# Altium integrated library Oscillators - Crystals.IntLib: 746 symbols (part 8 of 17)
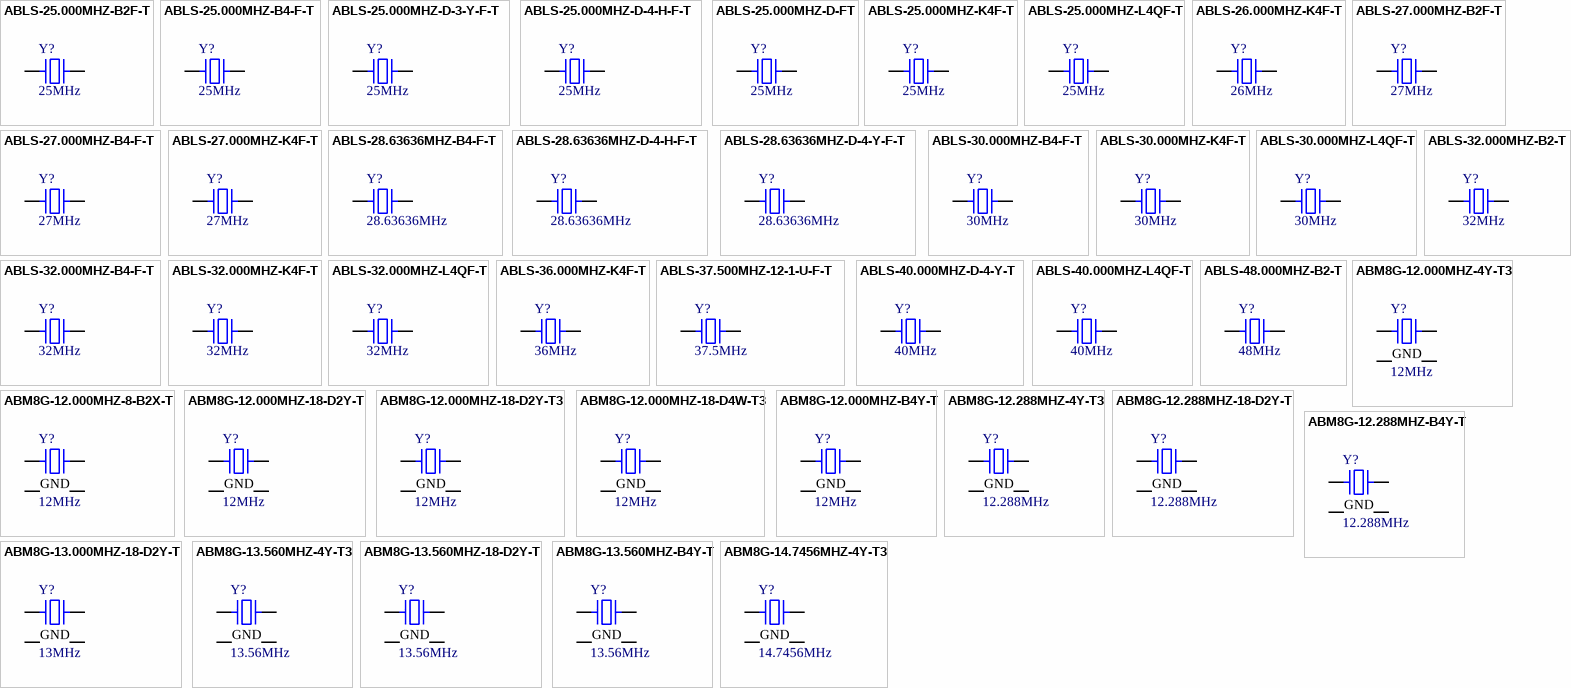
[diagram p25: symbols ABLS-25.000MHZ-B2F-T to ABM8G-14.7456MHZ-4Y-T3]

## ABLS-25.000MHZ-K4F-T
designator Y?, comment 25MHz
CRYSTAL 25.0000MHZ 18PF SMD; Part Number: ABLS-25.000MHZ-K4F-T; Manufacturer: Abracon LLC; ESR (Equivalent Series Resistance): 40 Ohms; Frequency Stability: ±50ppm; Frequency Tolerance: ±30ppm; Operating Mode: Fundamental; ComponentLink1Description: Datasheet; ComponentLink1URL: https://abracon.com/Resonators/abls.pdf; ComponentLink2Description: DigiKey Link; ComponentLink2URL: http://digikey.com/product-detail/en/abracon-llc/ABLS-25.000MHZ-K4F-T/535-9956-1-ND/2001579; Frequency: 25MHz; Height - Seated (Max): 0.165" (4.20mm); LastUpdated: 9/2/2020 1:21:44 AM; Lifecycle Status: Active; Load Capacitance: 18pF; Minimum Order: 1; Mounting Type: Surface Mount; Operating Temperature: -40°C ~ 125°C; Package / Case: HC-49/US; Packaging: TapeAndReel; PartId: 244; Part Status: Active; Price: 0.41; Series: ABLS; Size / Dimension: 0.449" L x 0.185" W (11.40mm x 4.70mm); Supplier 1: DigiKey; Supplier Part Number 1: 535-9956-1-ND; Type: MHz Crystal; Value: 25MHz
footprint ABRACON ABLS
pins: 1, 2

## ABLS-25.000MHZ-L4QF-T
designator Y?, comment 25MHz
CRYSTAL 25.0000MHZ 18PF SMD; Part Number: ABLS-25.000MHZ-L4QF-T; Manufacturer: Abracon LLC; ESR (Equivalent Series Resistance): 40 Ohms; Frequency Stability: ±100ppm; Frequency Tolerance: ±30ppm; Operating Mode: Fundamental; ComponentLink1Description: Datasheet; ComponentLink1URL: https://abracon.com/Resonators/abls.pdf; ComponentLink2Description: DigiKey Link; ComponentLink2URL: http://digikey.com/product-detail/en/abracon-llc/ABLS-25.000MHZ-L4QF-T/535-9920-1-ND/2001543; Frequency: 25MHz; Height - Seated (Max): 0.165" (4.20mm); LastUpdated: 9/2/2020 1:21:44 AM; Lifecycle Status: Active; Load Capacitance: 18pF; Minimum Order: 1; Mounting Type: Surface Mount; Operating Temperature: -55°C ~ 125°C; Package / Case: HC-49/US; Packaging: TapeAndReel; PartId: 204; Part Status: Active; Price: 0.42; Series: ABLS; Size / Dimension: 0.449" L x 0.185" W (11.40mm x 4.70mm); Supplier 1: DigiKey; Supplier Part Number 1: 535-9920-1-ND; Type: MHz Crystal; Value: 25MHz
footprint ABRACON ABLS
pins: 1, 2

## ABLS-26.000MHZ-K4F-T
designator Y?, comment 26MHz
CRYSTAL 26.0000MHZ 18PF SMD; Part Number: ABLS-26.000MHZ-K4F-T; Manufacturer: Abracon LLC; ESR (Equivalent Series Resistance): 40 Ohms; Frequency Stability: ±50ppm; Frequency Tolerance: ±30ppm; Operating Mode: Fundamental; ComponentLink1Description: Datasheet; ComponentLink1URL: https://abracon.com/Resonators/abls.pdf; ComponentLink2Description: DigiKey Link; ComponentLink2URL: http://digikey.com/product-detail/en/abracon-llc/ABLS-26.000MHZ-K4F-T/535-9957-1-ND/2001580; Frequency: 26MHz; Height - Seated (Max): 0.165" (4.20mm); LastUpdated: 9/2/2020 1:21:44 AM; Lifecycle Status: Active; Load Capacitance: 18pF; Minimum Order: 1; Mounting Type: Surface Mount; Operating Temperature: -40°C ~ 125°C; Package / Case: HC-49/US; Packaging: TapeAndReel; PartId: 199; Part Status: Active; Price: 0.41; Series: ABLS; Size / Dimension: 0.449" L x 0.185" W (11.40mm x 4.70mm); Supplier 1: DigiKey; Supplier Part Number 1: 535-9957-1-ND; Type: MHz Crystal; Value: 26MHz
footprint ABRACON ABLS
pins: 1, 2

## ABLS-27.000MHZ-B2F-T
designator Y?, comment 27MHz
CRYSTAL 27.0000MHZ 18PF SMD; Part Number: ABLS-27.000MHZ-B2F-T; Manufacturer: Abracon LLC; ESR (Equivalent Series Resistance): 40 Ohms; Frequency Stability: ±50ppm; Frequency Tolerance: ±20ppm; Operating Mode: Fundamental; ComponentLink1Description: Datasheet; ComponentLink1URL: https://abracon.com/Resonators/abls.pdf; ComponentLink2Description: DigiKey Link; ComponentLink2URL: http://digikey.com/product-detail/en/abracon-llc/ABLS-27.000MHZ-B2F-T/535-9079-1-ND/675596; Frequency: 27MHz; Height - Seated (Max): 0.165" (4.20mm); LastUpdated: 9/2/2020 1:21:46 AM; Lifecycle Status: Active; Load Capacitance: 18pF; Minimum Order: 1; Mounting Type: Surface Mount; Operating Temperature: -20°C ~ 70°C; Package / Case: HC-49/US; Packaging: TapeAndReel; PartId: 7; Part Status: Active; Price: 0.24; Series: ABLS; Size / Dimension: 0.449" L x 0.185" W (11.40mm x 4.70mm); Supplier 1: DigiKey; Supplier Part Number 1: 535-9079-1-ND; Type: MHz Crystal; Value: 27MHz
footprint ABRACON ABLS
pins: 1, 2

## ABLS-27.000MHZ-B4-F-T
designator Y?, comment 27MHz
CRYSTAL 27.0000MHZ 18PF SMD; Part Number: ABLS-27.000MHZ-B4-F-T; Manufacturer: Abracon LLC; ESR (Equivalent Series Resistance): 40 Ohms; Frequency Stability: ±50ppm; Frequency Tolerance: ±30ppm; Operating Mode: Fundamental; ComponentLink1Description: Datasheet; ComponentLink1URL: https://abracon.com/Resonators/abls.pdf; ComponentLink2Description: DigiKey Link; ComponentLink2URL: http://digikey.com/product-detail/en/abracon-llc/ABLS-27.000MHZ-B4-F-T/535-10236-1-ND/2184271; Frequency: 27MHz; Height - Seated (Max): 0.165" (4.20mm); LastUpdated: 9/2/2020 1:21:44 AM; Lifecycle Status: Active; Load Capacitance: 18pF; Minimum Order: 0; Mounting Type: Surface Mount; Operating Temperature: -20°C ~ 70°C; Package / Case: HC-49/US; Packaging: TapeAndReel; PartId: 238; Part Status: Active; Price: 0.18; Series: ABLS; Size / Dimension: 0.449" L x 0.185" W (11.40mm x 4.70mm); Supplier 1: DigiKey; Supplier Part Number 1: 535-10236-1-ND; Type: MHz Crystal; Value: 27MHz
footprint ABRACON ABLS
pins: 1, 2

## ABLS-27.000MHZ-K4F-T
designator Y?, comment 27MHz
CRYSTAL 27.0000MHZ 18PF SMD; Part Number: ABLS-27.000MHZ-K4F-T; Manufacturer: Abracon LLC; ESR (Equivalent Series Resistance): 40 Ohms; Frequency Stability: ±50ppm; Operating Mode: Fundamental; ComponentLink1Description: Datasheet; ComponentLink1URL: https://abracon.com/Resonators/abls.pdf; ComponentLink2Description: DigiKey Link; ComponentLink2URL: http://digikey.com/product-detail/en/abracon-llc/ABLS-27.000MHZ-K4F-T/535-9958-1-ND/2001581; Frequency: 27MHz; Frequency Tolerance: ±50ppm; Height - Seated (Max): 0.165" (4.20mm); LastUpdated: 9/2/2020 1:21:44 AM; Lifecycle Status: Active; Load Capacitance: 18pF; Minimum Order: 1; Mounting Type: Surface Mount; Operating Temperature: -40°C ~ 125°C; Package / Case: HC-49/US; Packaging: TapeAndReel; PartId: 198; Part Status: Active; Price: 0.41; Series: ABLS; Size / Dimension: 0.449" L x 0.185" W (11.40mm x 4.70mm); Supplier 1: DigiKey; Supplier Part Number 1: 535-9958-1-ND; Type: MHz Crystal; Value: 27MHz
footprint ABRACON ABLS
pins: 1, 2

## ABLS-28.63636MHZ-B4-F-T
designator Y?, comment 28.63636MHz
CRYSTAL 28.63636MHZ 18PF SMD; Part Number: ABLS-28.63636MHZ-B4-F-T; Manufacturer: Abracon LLC; ESR (Equivalent Series Resistance): 40 Ohms; Frequency Stability: ±50ppm; Frequency Tolerance: ±30ppm; Operating Mode: Fundamental; ComponentLink1Description: Datasheet; ComponentLink1URL: https://abracon.com/Resonators/abls.pdf; ComponentLink2Description: DigiKey Link; ComponentLink2URL: http://digikey.com/product-detail/en/abracon-llc/ABLS-28.63636MHZ-B4-F-T/535-10237-1-ND/2184272; Frequency: 28.63636MHz; Height - Seated (Max): 0.165" (4.20mm); LastUpdated: 9/2/2020 1:21:45 AM; Lifecycle Status: Active; Load Capacitance: 18pF; Minimum Order: 1; Mounting Type: Surface Mount; Operating Temperature: -20°C ~ 70°C; Package / Case: HC-49/US; Packaging: TapeAndReel; PartId: 109; Part Status: Active; Price: 0.18; Series: ABLS; Size / Dimension: 0.449" L x 0.185" W (11.40mm x 4.70mm); Supplier 1: DigiKey; Supplier Part Number 1: 535-10237-1-ND; Type: MHz Crystal; Value: 28.63636MHz
footprint ABRACON ABLS
pins: 1, 2

## ABLS-28.63636MHZ-D-4-H-F-T
designator Y?, comment 28.63636MHz
CRYSTAL 28.63636MHZ 18PF SMD; Part Number: ABLS-28.63636MHZ-D-4-H-F-T; Manufacturer: Abracon LLC; ESR (Equivalent Series Resistance): 40 Ohms; Frequency Stability: ±35ppm; Frequency Tolerance: ±30ppm; Operating Mode: Fundamental; ComponentLink1Description: Datasheet; ComponentLink1URL: https://abracon.com/Resonators/abls.pdf; ComponentLink2Description: DigiKey Link; ComponentLink2URL: http://digikey.com/product-detail/en/abracon-llc/ABLS-28.63636MHZ-D-4-H-F-T/535-14906-1-ND/9997983; Frequency: 28.63636MHz; Height - Seated (Max): 0.165" (4.20mm); LastUpdated: 9/2/2020 1:21:46 AM; Lifecycle Status: Active; Load Capacitance: 18pF; Minimum Order: 1; Mounting Type: Surface Mount; Operating Temperature: -40°C ~ 85°C; Package / Case: HC-49/US; Packaging: TapeAndReel; PartId: 71; Part Status: Active; Price: 0.26; Series: ABLS; Size / Dimension: 0.449" L x 0.185" W (11.40mm x 4.70mm); Supplier 1: DigiKey; Supplier Part Number 1: 535-14906-1-ND; Type: MHz Crystal; Value: 28.63636MHz
footprint ABRACON ABLS
pins: 1, 2

## ABLS-28.63636MHZ-D-4-Y-F-T
designator Y?, comment 28.63636MHz
CRYSTAL 28.63636MHZ 18PF SMD; Part Number: ABLS-28.63636MHZ-D-4-Y-F-T; Manufacturer: Abracon LLC; ESR (Equivalent Series Resistance): 40 Ohms; Frequency Stability: ±30ppm; Operating Mode: Fundamental; ComponentLink1Description: Datasheet; ComponentLink1URL: https://abracon.com/Resonators/abls.pdf; ComponentLink2Description: DigiKey Link; ComponentLink2URL: http://digikey.com/product-detail/en/abracon-llc/ABLS-28.63636MHZ-D-4-Y-F-T/535-14907-1-ND/9997984; Frequency: 28.63636MHz; Frequency Tolerance: ±30ppm; Height - Seated (Max): 0.165" (4.20mm); LastUpdated: 9/2/2020 1:21:46 AM; Lifecycle Status: Active; Load Capacitance: 18pF; Minimum Order: 1; Mounting Type: Surface Mount; Operating Temperature: -40°C ~ 85°C; Package / Case: HC-49/US; Packaging: TapeAndReel; PartId: 81; Part Status: Active; Price: 0.28; Series: ABLS; Size / Dimension: 0.449" L x 0.185" W (11.40mm x 4.70mm); Supplier 1: DigiKey; Supplier Part Number 1: 535-14907-1-ND; Type: MHz Crystal; Value: 28.63636MHz
footprint ABRACON ABLS
pins: 1, 2

## ABLS-30.000MHZ-B4-F-T
designator Y?, comment 30MHz
CRYSTAL 30.0000MHZ 18PF SMD; Part Number: ABLS-30.000MHZ-B4-F-T; Manufacturer: Abracon LLC; ESR (Equivalent Series Resistance): 40 Ohms; Frequency Stability: ±50ppm; Frequency Tolerance: ±30ppm; Operating Mode: Fundamental; ComponentLink1Description: Datasheet; ComponentLink1URL: https://abracon.com/Resonators/abls.pdf; ComponentLink2Description: DigiKey Link; ComponentLink2URL: http://digikey.com/product-detail/en/abracon-llc/ABLS-30.000MHZ-B4-F-T/535-10238-2-ND/2184181; Frequency: 30MHz; Height - Seated (Max): 0.165" (4.20mm); LastUpdated: 9/2/2020 1:21:45 AM; Lifecycle Status: Active; Load Capacitance: 18pF; Minimum Order: 0; Mounting Type: Surface Mount; Operating Temperature: -20°C ~ 70°C; Package / Case: HC-49/US; Packaging: TapeAndReel; PartId: 160; Part Status: Active; Price: 0.18; Series: ABLS; Size / Dimension: 0.449" L x 0.185" W (11.40mm x 4.70mm); Supplier 1: DigiKey; Supplier Part Number 1: 535-10238-2-ND; Type: MHz Crystal; Value: 30MHz
footprint ABRACON ABLS
pins: 1, 2

## ABLS-30.000MHZ-K4F-T
designator Y?, comment 30MHz
CRYSTAL 30.0000MHZ 18PF SMD; Part Number: ABLS-30.000MHZ-K4F-T; Manufacturer: Abracon LLC; ESR (Equivalent Series Resistance): 40 Ohms; Frequency Stability: ±50ppm; Frequency Tolerance: ±30ppm; Operating Mode: Fundamental; ComponentLink1Description: Datasheet; ComponentLink1URL: https://abracon.com/Resonators/abls.pdf; ComponentLink2Description: DigiKey Link; ComponentLink2URL: http://digikey.com/product-detail/en/abracon-llc/ABLS-30.000MHZ-K4F-T/535-9959-1-ND/2001582; Frequency: 30MHz; Height - Seated (Max): 0.165" (4.20mm); LastUpdated: 9/2/2020 1:21:44 AM; Lifecycle Status: Active; Load Capacitance: 18pF; Minimum Order: 1; Mounting Type: Surface Mount; Operating Temperature: -40°C ~ 125°C; Package / Case: HC-49/US; Packaging: TapeAndReel; PartId: 227; Part Status: Active; Price: 0.44; Series: ABLS; Size / Dimension: 0.449" L x 0.185" W (11.40mm x 4.70mm); Supplier 1: DigiKey; Supplier Part Number 1: 535-9959-1-ND; Type: MHz Crystal; Value: 30MHz
footprint ABRACON ABLS
pins: 1, 2

## ABLS-30.000MHZ-L4QF-T
designator Y?, comment 30MHz
CRYSTAL 30.0000MHZ 18PF SMD; Part Number: ABLS-30.000MHZ-L4QF-T; Manufacturer: Abracon LLC; ESR (Equivalent Series Resistance): 40 Ohms; Frequency Stability: ±100ppm; Frequency Tolerance: ±30ppm; Operating Mode: Fundamental; ComponentLink1Description: Datasheet; ComponentLink1URL: https://abracon.com/Resonators/abls.pdf; ComponentLink2Description: DigiKey Link; ComponentLink2URL: http://digikey.com/product-detail/en/abracon-llc/ABLS-30.000MHZ-L4QF-T/535-9923-1-ND/2001546; Frequency: 30MHz; Height - Seated (Max): 0.165" (4.20mm); LastUpdated: 9/2/2020 1:21:44 AM; Lifecycle Status: Active; Load Capacitance: 18pF; Minimum Order: 1; Mounting Type: Surface Mount; Operating Temperature: -55°C ~ 125°C; Package / Case: HC-49/US; Packaging: TapeAndReel; PartId: 256; Part Status: Active; Price: 0.45; Series: ABLS; Size / Dimension: 0.449" L x 0.185" W (11.40mm x 4.70mm); Supplier 1: DigiKey; Supplier Part Number 1: 535-9923-1-ND; Type: MHz Crystal; Value: 30MHz
footprint ABRACON ABLS
pins: 1, 2

## ABLS-32.000MHZ-B2-T
designator Y?, comment 32MHz
CRYSTAL 32.0000MHZ 18PF SMD; Part Number: ABLS-32.000MHZ-B2-T; Manufacturer: Abracon LLC; ESR (Equivalent Series Resistance): 80 Ohms; Frequency Stability: ±50ppm; Frequency Tolerance: ±20ppm; Operating Mode: 3rd Overtone; ComponentLink1Description: Datasheet; ComponentLink1URL: https://abracon.com/Resonators/abls.pdf; ComponentLink2Description: DigiKey Link; ComponentLink2URL: http://digikey.com/product-detail/en/abracon-llc/ABLS-32.000MHZ-B2-T/535-9080-1-ND/675597; Frequency: 32MHz; Height - Seated (Max): 0.165" (4.20mm); LastUpdated: 9/2/2020 1:21:46 AM; Lifecycle Status: Active; Load Capacitance: 18pF; Minimum Order: 1; Mounting Type: Surface Mount; Operating Temperature: -20°C ~ 70°C; Package / Case: HC-49/US; Packaging: TapeAndReel; PartId: 9; Part Status: Active; Price: 0.24; Series: ABLS; Size / Dimension: 0.449" L x 0.185" W (11.40mm x 4.70mm); Supplier 1: DigiKey; Supplier Part Number 1: 535-9080-1-ND; Type: MHz Crystal; Value: 32MHz
footprint ABRACON ABLS
pins: 1, 2

## ABLS-32.000MHZ-B4-F-T
designator Y?, comment 32MHz
CRYSTAL 32.0000MHZ 18PF SMD; Part Number: ABLS-32.000MHZ-B4-F-T; Manufacturer: Abracon LLC; ESR (Equivalent Series Resistance): 40 Ohms; Frequency Stability: ±50ppm; Frequency Tolerance: ±30ppm; Operating Mode: Fundamental; ComponentLink1Description: Datasheet; ComponentLink1URL: https://abracon.com/Resonators/abls.pdf; ComponentLink2Description: DigiKey Link; ComponentLink2URL: http://digikey.com/product-detail/en/abracon-llc/ABLS-32.000MHZ-B4-F-T/535-10239-1-ND/2184274; Frequency: 32MHz; Height - Seated (Max): 0.165" (4.20mm); LastUpdated: 9/2/2020 1:21:44 AM; Lifecycle Status: Active; Load Capacitance: 18pF; Minimum Order: 0; Mounting Type: Surface Mount; Operating Temperature: -20°C ~ 70°C; Package / Case: HC-49/US; Packaging: TapeAndReel; PartId: 235; Part Status: Active; Price: 0.18; Series: ABLS; Size / Dimension: 0.449" L x 0.185" W (11.40mm x 4.70mm); Supplier 1: DigiKey; Supplier Part Number 1: 535-10239-1-ND; Type: MHz Crystal; Value: 32MHz
footprint ABRACON ABLS
pins: 1, 2

## ABLS-32.000MHZ-K4F-T
designator Y?, comment 32MHz
CRYSTAL 32.0000MHZ 18PF SMD; Part Number: ABLS-32.000MHZ-K4F-T; Manufacturer: Abracon LLC; ESR (Equivalent Series Resistance): 40 Ohms; Frequency Stability: ±50ppm; Frequency Tolerance: ±30ppm; Operating Mode: Fundamental; ComponentLink1Description: Datasheet; ComponentLink1URL: https://abracon.com/Resonators/abls.pdf; ComponentLink2Description: DigiKey Link; ComponentLink2URL: http://digikey.com/product-detail/en/abracon-llc/ABLS-32.000MHZ-K4F-T/535-9960-1-ND/2001583; Frequency: 32MHz; Height - Seated (Max): 0.165" (4.20mm); LastUpdated: 9/2/2020 1:21:44 AM; Lifecycle Status: Active; Load Capacitance: 18pF; Minimum Order: 1; Mounting Type: Surface Mount; Operating Temperature: -40°C ~ 125°C; Package / Case: HC-49/US; Packaging: TapeAndReel; PartId: 207; Part Status: Active; Price: 0.44; Series: ABLS; Size / Dimension: 0.449" L x 0.185" W (11.40mm x 4.70mm); Supplier 1: DigiKey; Supplier Part Number 1: 535-9960-1-ND; Type: MHz Crystal; Value: 32MHz
footprint ABRACON ABLS
pins: 1, 2

## ABLS-32.000MHZ-L4QF-T
designator Y?, comment 32MHz
CRYSTAL 32.0000MHZ 18PF SMD; Part Number: ABLS-32.000MHZ-L4QF-T; Manufacturer: Abracon LLC; ESR (Equivalent Series Resistance): 40 Ohms; Frequency Stability: ±100ppm; Frequency Tolerance: ±30ppm; Operating Mode: Fundamental; ComponentLink1Description: Datasheet; ComponentLink1URL: https://abracon.com/Resonators/abls.pdf; ComponentLink2Description: DigiKey Link; ComponentLink2URL: http://digikey.com/product-detail/en/abracon-llc/ABLS-32.000MHZ-L4QF-T/535-9924-1-ND/2001547; Frequency: 32MHz; Height - Seated (Max): 0.165" (4.20mm); LastUpdated: 9/2/2020 1:21:44 AM; Lifecycle Status: Active; Load Capacitance: 18pF; Minimum Order: 1; Mounting Type: Surface Mount; Operating Temperature: -55°C ~ 125°C; Package / Case: HC-49/US; Packaging: TapeAndReel; PartId: 255; Part Status: Active; Price: 0.45; Series: ABLS; Size / Dimension: 0.449" L x 0.185" W (11.40mm x 4.70mm); Supplier 1: DigiKey; Supplier Part Number 1: 535-9924-1-ND; Type: MHz Crystal; Value: 32MHz
footprint ABRACON ABLS
pins: 1, 2

## ABLS-36.000MHZ-K4F-T
designator Y?, comment 36MHz
CRYSTAL 36.0000MHZ 18PF SMD; Part Number: ABLS-36.000MHZ-K4F-T; Manufacturer: Abracon LLC; ESR (Equivalent Series Resistance): 40 Ohms; Frequency Stability: ±50ppm; Frequency Tolerance: ±30ppm; Operating Mode: Fundamental; ComponentLink1Description: Datasheet; ComponentLink1URL: https://abracon.com/Resonators/abls.pdf; ComponentLink2Description: DigiKey Link; ComponentLink2URL: http://digikey.com/product-detail/en/abracon-llc/ABLS-36.000MHZ-K4F-T/535-9962-1-ND/2001585; Frequency: 36MHz; Height - Seated (Max): 0.165" (4.20mm); LastUpdated: 9/2/2020 1:21:44 AM; Lifecycle Status: Active; Load Capacitance: 18pF; Minimum Order: 1; Mounting Type: Surface Mount; Operating Temperature: -40°C ~ 125°C; Package / Case: HC-49/US; Packaging: TapeAndReel; PartId: 254; Part Status: Active; Price: 0.44; Series: ABLS; Size / Dimension: 0.449" L x 0.185" W (11.40mm x 4.70mm); Supplier 1: DigiKey; Supplier Part Number 1: 535-9962-1-ND; Type: MHz Crystal; Value: 36MHz
footprint ABRACON ABLS
pins: 1, 2

## ABLS-37.500MHZ-12-1-U-F-T
designator Y?, comment 37.5MHz
CRYSTAL 37.5000MHZ 12PF SMD; Part Number: ABLS-37.500MHZ-12-1-U-F-T; Manufacturer: Abracon LLC; ESR (Equivalent Series Resistance): 80 Ohms; Frequency Stability: ±10ppm; Operating Mode: Fundamental; ComponentLink1Description: Datasheet; ComponentLink1URL: https://abracon.com/Resonators/abls.pdf; ComponentLink2Description: DigiKey Link; ComponentLink2URL: http://digikey.com/product-detail/en/abracon-llc/ABLS-37.500MHZ-12-1-U-F-T/535-10795-1-ND/2651207; Frequency: 37.5MHz; Frequency Tolerance: ±10ppm; Height - Seated (Max): 0.165" (4.20mm); LastUpdated: 9/2/2020 1:21:46 AM; Lifecycle Status: Active; Load Capacitance: 12pF; Minimum Order: 1; Mounting Type: Surface Mount; Package / Case: HC-49/US; Packaging: TapeAndReel; PartId: 6; Part Status: Active; Price: 0.45; Series: ABLS; Size / Dimension: 0.449" L x 0.185" W (11.40mm x 4.70mm); Supplier 1: DigiKey; Supplier Part Number 1: 535-10795-1-ND; Type: MHz Crystal; Value: 37.5MHz
footprint ABRACON ABLS
pins: 1, 2

## ABLS-40.000MHZ-D-4-Y-T
designator Y?, comment 40MHz
CRYSTAL 40.0000MHZ 18PF SMD; Part Number: ABLS-40.000MHZ-D-4-Y-T; Manufacturer: Abracon LLC; ESR (Equivalent Series Resistance): 40 Ohms; Frequency Stability: ±30ppm; Operating Mode: 3rd Overtone; ComponentLink1Description: Datasheet; ComponentLink1URL: https://abracon.com/Resonators/abls.pdf; ComponentLink2Description: DigiKey Link; ComponentLink2URL: http://digikey.com/product-detail/en/abracon-llc/ABLS-40.000MHZ-D-4-Y-T/535-14930-1-ND/9998007; Frequency: 40MHz; Frequency Tolerance: ±30ppm; Height - Seated (Max): 0.165" (4.20mm); LastUpdated: 9/2/2020 1:21:45 AM; Lifecycle Status: Active; Load Capacitance: 18pF; Minimum Order: 1; Mounting Type: Surface Mount; Operating Temperature: -40°C ~ 85°C; Package / Case: HC-49/US; Packaging: TapeAndReel; PartId: 86; Part Status: Active; Price: 0.29; Series: ABLS; Size / Dimension: 0.449" L x 0.185" W (11.40mm x 4.70mm); Supplier 1: DigiKey; Supplier Part Number 1: 535-14930-1-ND; Type: MHz Crystal; Value: 40MHz
footprint ABRACON ABLS
pins: 1, 2

## ABLS-40.000MHZ-L4QF-T
designator Y?, comment 40MHz
CRYSTAL 40.0000MHZ 18PF SMD; Part Number: ABLS-40.000MHZ-L4QF-T; Manufacturer: Abracon LLC; ESR (Equivalent Series Resistance): 40 Ohms; Frequency Stability: ±100ppm; Frequency Tolerance: ±30ppm; Operating Mode: Fundamental; ComponentLink1Description: Datasheet; ComponentLink1URL: https://abracon.com/Resonators/abls.pdf; ComponentLink2Description: DigiKey Link; ComponentLink2URL: http://digikey.com/product-detail/en/abracon-llc/ABLS-40.000MHZ-L4QF-T/535-9927-1-ND/2001550; Frequency: 40MHz; Height - Seated (Max): 0.165" (4.20mm); LastUpdated: 9/2/2020 1:21:44 AM; Lifecycle Status: Active; Load Capacitance: 18pF; Minimum Order: 0; Mounting Type: Surface Mount; Operating Temperature: -55°C ~ 125°C; Package / Case: HC-49/US; Packaging: TapeAndReel; PartId: 240; Part Status: Active; Price: 0.38; Series: ABLS; Size / Dimension: 0.449" L x 0.185" W (11.40mm x 4.70mm); Supplier 1: DigiKey; Supplier Part Number 1: 535-9927-1-ND; Type: MHz Crystal; Value: 40MHz
footprint ABRACON ABLS
pins: 1, 2

## ABLS-48.000MHZ-B2-T
designator Y?, comment 48MHz
CRYSTAL 48.0000MHZ 18PF SMD; Part Number: ABLS-48.000MHZ-B2-T; Manufacturer: Abracon LLC; ESR (Equivalent Series Resistance): 80 Ohms; Frequency Stability: ±50ppm; Frequency Tolerance: ±20ppm; Operating Mode: 3rd Overtone; ComponentLink1Description: Datasheet; ComponentLink1URL: https://abracon.com/Resonators/abls.pdf; ComponentLink2Description: DigiKey Link; ComponentLink2URL: http://digikey.com/product-detail/en/abracon-llc/ABLS-48.000MHZ-B2-T/535-9083-1-ND/675600; Frequency: 48MHz; Height - Seated (Max): 0.165" (4.20mm); LastUpdated: 9/2/2020 1:21:45 AM; Lifecycle Status: Active; Load Capacitance: 18pF; Minimum Order: 1; Mounting Type: Surface Mount; Operating Temperature: -20°C ~ 70°C; Package / Case: HC-49/US; Packaging: TapeAndReel; PartId: 184; Part Status: Active; Price: 0.24; Series: ABLS; Size / Dimension: 0.449" L x 0.185" W (11.40mm x 4.70mm); Supplier 1: DigiKey; Supplier Part Number 1: 535-9083-1-ND; Type: MHz Crystal; Value: 48MHz
footprint ABRACON ABLS
pins: 1, 2

## ABM8G-12.000MHZ-4Y-T3
designator Y?, comment 12MHz
CRYSTAL 12.0000MHZ 10PF SMD; Part Number: ABM8G-12.000MHZ-4Y-T3; Manufacturer: Abracon LLC; ESR (Equivalent Series Resistance): 120 Ohms; Frequency Stability: ±30ppm; Operating Mode: Fundamental; ComponentLink1Description: Datasheet; ComponentLink1URL: https://abracon.com/Resonators/ABM8G.pdf; ComponentLink2Description: DigiKey Link; ComponentLink2URL: http://digikey.com/product-detail/en/abracon-llc/ABM8G-12.000MHZ-4Y-T3/535-10901-1-ND/2624234; Device Package: 4-SMD, No Lead; Frequency: 12MHz; Frequency Tolerance: ±30ppm; Height - Seated (Max): 0.039" (1.00mm); LastUpdated: 3/19/2020 10:36:25 PM; Lifecycle Status: Active; Load Capacitance: 10pF; Minimum Order: 1; Mounting Type: Surface Mount; Operating Temperature: -10°C ~ 60°C; Package / Case: 4-SMD, No Lead; Packaging: TapeAndReel; PartId: 327; Part Status: Active; Price: 0.39; Series: ABM8G; Size / Dimension: 0.126" L x 0.098" W (3.20mm x 2.50mm); Supplier 1: DigiKey; Supplier Part Number 1: 535-10901-1-ND; Type: MHz Crystal; Value: 12MHz
footprint ABRACON ABM8G
pins: 1, 2 GND, 3, 4 GND

## ABM8G-12.000MHZ-8-B2X-T
designator Y?, comment 12MHz
CRYSTAL 12.000MHZ 8PF SMD; Part Number: ABM8G-12.000MHZ-8-B2X-T; Manufacturer: Abracon LLC; ESR (Equivalent Series Resistance): 120 Ohms; Frequency Stability: ±20ppm; Operating Mode: Fundamental; ComponentLink1Description: Datasheet; ComponentLink1URL: https://abracon.com/Resonators/ABM8G.pdf; ComponentLink2Description: DigiKey Link; ComponentLink2URL: http://digikey.com/product-detail/en/abracon-llc/ABM8G-12.000MHZ-8-B2X-T/535-14408-1-ND/8582169; Device Package: 4-SMD, No Lead; Frequency: 12MHz; Frequency Tolerance: ±20ppm; Height - Seated (Max): 0.039" (1.00mm); LastUpdated: 3/19/2020 10:36:25 PM; Lifecycle Status: Active; Load Capacitance: 8pF; Minimum Order: 1; Mounting Type: Surface Mount; Operating Temperature: -20°C ~ 70°C; Package / Case: 4-SMD, No Lead; Packaging: TapeAndReel; PartId: 367; Part Status: Active; Price: 0.41; Series: ABM8G; Size / Dimension: 0.126" L x 0.098" W (3.20mm x 2.50mm); Supplier 1: DigiKey; Supplier Part Number 1: 535-14408-1-ND; Type: MHz Crystal; Value: 12MHz
footprint ABRACON ABM8G
pins: 1, 2 GND, 3, 4 GND

## ABM8G-12.000MHZ-18-D2Y-T
designator Y?, comment 12MHz
CRYSTAL 12.0000MHZ 18PF SMD; Part Number: ABM8G-12.000MHZ-18-D2Y-T; Manufacturer: Abracon LLC; ESR (Equivalent Series Resistance): 120 Ohms; Frequency Stability: ±30ppm; Frequency Tolerance: ±20ppm; Operating Mode: Fundamental; ComponentLink1Description: Datasheet; ComponentLink1URL: https://abracon.com/Resonators/ABM8G.pdf; ComponentLink2Description: DigiKey Link; ComponentLink2URL: http://digikey.com/product-detail/en/abracon-llc/ABM8G-12.000MHZ-18-D2Y-T/535-10261-1-ND/2218074; Device Package: 4-SMD, No Lead; Frequency: 12MHz; Height - Seated (Max): 0.039" (1.00mm); LastUpdated: 3/19/2020 10:36:25 PM; Lifecycle Status: Active; Load Capacitance: 18pF; Minimum Order: 1; Mounting Type: Surface Mount; Operating Temperature: -40°C ~ 85°C; Package / Case: 4-SMD, No Lead; Packaging: TapeAndReel; PartId: 310; Part Status: Active; Price: 0.59; Series: ABM8G; Size / Dimension: 0.126" L x 0.098" W (3.20mm x 2.50mm); Supplier 1: DigiKey; Supplier Part Number 1: 535-10261-1-ND; Type: MHz Crystal; Value: 12MHz
footprint ABRACON ABM8G
pins: 1, 2 GND, 3, 4 GND

## ABM8G-12.000MHZ-18-D2Y-T3
designator Y?, comment 12MHz
CRYSTAL 12.0000MHZ 18PF SMD; Part Number: ABM8G-12.000MHZ-18-D2Y-T3; Manufacturer: Abracon LLC; ESR (Equivalent Series Resistance): 120 Ohms; Frequency Stability: ±30ppm; Frequency Tolerance: ±20ppm; Operating Mode: Fundamental; ComponentLink1Description: Datasheet; ComponentLink1URL: https://abracon.com/Resonators/ABM8G.pdf; ComponentLink2Description: DigiKey Link; ComponentLink2URL: http://digikey.com/product-detail/en/abracon-llc/ABM8G-12.000MHZ-18-D2Y-T3/535-14128-1-ND/7622339; Device Package: 4-SMD, No Lead; Frequency: 12MHz; Height - Seated (Max): 0.039" (1.00mm); LastUpdated: 3/19/2020 10:36:25 PM; Lifecycle Status: Active; Load Capacitance: 18pF; Minimum Order: 1; Mounting Type: Surface Mount; Operating Temperature: -40°C ~ 85°C; Package / Case: 4-SMD, No Lead; Packaging: TapeAndReel; PartId: 349; Part Status: Active; Price: 0.51; Series: ABM8G; Size / Dimension: 0.126" L x 0.098" W (3.20mm x 2.50mm); Supplier 1: DigiKey; Supplier Part Number 1: 535-14128-1-ND; Type: MHz Crystal; Value: 12MHz
footprint ABRACON ABM8G
pins: 1, 2 GND, 3, 4 GND

## ABM8G-12.000MHZ-18-D4W-T3
designator Y?, comment 12MHz
CRYSTAL 12.000MHZ 18PF SMD; Part Number: ABM8G-12.000MHZ-18-D4W-T3; Manufacturer: Abracon LLC; ESR (Equivalent Series Resistance): 120 Ohms; Frequency Stability: ±25ppm; Frequency Tolerance: ±30ppm; Operating Mode: Fundamental; ComponentLink1Description: Datasheet; ComponentLink1URL: https://abracon.com/Resonators/ABM8G.pdf; ComponentLink2Description: DigiKey Link; ComponentLink2URL: http://digikey.com/product-detail/en/abracon-llc/ABM8G-12.000MHZ-18-D4W-T3/535-14407-1-ND/8582168; Device Package: 4-SMD, No Lead; Frequency: 12MHz; Height - Seated (Max): 0.039" (1.00mm); LastUpdated: 3/19/2020 10:36:25 PM; Lifecycle Status: Active; Load Capacitance: 18pF; Minimum Order: 1; Mounting Type: Surface Mount; Operating Temperature: -40°C ~ 85°C; Package / Case: 4-SMD, No Lead; Packaging: TapeAndReel; PartId: 351; Part Status: Active; Price: 0.41; Series: ABM8G; Size / Dimension: 0.126" L x 0.098" W (3.20mm x 2.50mm); Supplier 1: DigiKey; Supplier Part Number 1: 535-14407-1-ND; Type: MHz Crystal; Value: 12MHz
footprint ABRACON ABM8G
pins: 1, 2 GND, 3, 4 GND

## ABM8G-12.000MHZ-B4Y-T
designator Y?, comment 12MHz
CRYSTAL 12.0000MHZ 10PF SMD; Part Number: ABM8G-12.000MHZ-B4Y-T; Manufacturer: Abracon LLC; ESR (Equivalent Series Resistance): 120 Ohms; Frequency Stability: ±30ppm; Operating Mode: Fundamental; ComponentLink1Description: Datasheet; ComponentLink1URL: https://abracon.com/Resonators/ABM8G.pdf; ComponentLink2Description: DigiKey Link; ComponentLink2URL: http://digikey.com/product-detail/en/abracon-llc/ABM8G-12.000MHZ-B4Y-T/535-10283-1-ND/2218096; Device Package: 4-SMD, No Lead; Frequency: 12MHz; Frequency Tolerance: ±30ppm; Height - Seated (Max): 0.039" (1.00mm); LastUpdated: 3/19/2020 10:36:25 PM; Lifecycle Status: Active; Load Capacitance: 10pF; Minimum Order: 1; Mounting Type: Surface Mount; Operating Temperature: -20°C ~ 70°C; Package / Case: 4-SMD, No Lead; Packaging: TapeAndReel; PartId: 301; Part Status: Active; Price: 0.50; Series: ABM8G; Size / Dimension: 0.126" L x 0.098" W (3.20mm x 2.50mm); Supplier 1: DigiKey; Supplier Part Number 1: 535-10283-1-ND; Type: MHz Crystal; Value: 12MHz
footprint ABRACON ABM8G
pins: 1, 2 GND, 3, 4 GND

## ABM8G-12.288MHZ-4Y-T3
designator Y?, comment 12.288MHz
CRYSTAL 12.2880MHZ 10PF SMD; Part Number: ABM8G-12.288MHZ-4Y-T3; Manufacturer: Abracon LLC; ESR (Equivalent Series Resistance): 80 Ohms; Frequency Stability: ±30ppm; Operating Mode: Fundamental; ComponentLink1Description: Datasheet; ComponentLink1URL: https://abracon.com/Resonators/ABM8G.pdf; ComponentLink2Description: DigiKey Link; ComponentLink2URL: http://digikey.com/product-detail/en/abracon-llc/ABM8G-12.288MHZ-4Y-T3/535-10902-1-ND/2624235; Device Package: 4-SMD, No Lead; Frequency: 12.288MHz; Frequency Tolerance: ±30ppm; Height - Seated (Max): 0.039" (1.00mm); LastUpdated: 3/19/2020 10:36:25 PM; Lifecycle Status: Active; Load Capacitance: 10pF; Minimum Order: 1; Mounting Type: Surface Mount; Operating Temperature: -10°C ~ 60°C; Package / Case: 4-SMD, No Lead; Packaging: TapeAndReel; PartId: 358; Part Status: Active; Price: 0.39; Series: ABM8G; Size / Dimension: 0.126" L x 0.098" W (3.20mm x 2.50mm); Supplier 1: DigiKey; Supplier Part Number 1: 535-10902-1-ND; Type: MHz Crystal; Value: 12.288MHz
footprint ABRACON ABM8G
pins: 1, 2 GND, 3, 4 GND

## ABM8G-12.288MHZ-18-D2Y-T
designator Y?, comment 12.288MHz
CRYSTAL 12.2880MHZ 18PF SMD; Part Number: ABM8G-12.288MHZ-18-D2Y-T; Manufacturer: Abracon LLC; ESR (Equivalent Series Resistance): 80 Ohms; Frequency Stability: ±30ppm; Frequency Tolerance: ±20ppm; Operating Mode: Fundamental; ComponentLink1Description: Datasheet; ComponentLink1URL: https://abracon.com/Resonators/ABM8G.pdf; ComponentLink2Description: DigiKey Link; ComponentLink2URL: http://digikey.com/product-detail/en/abracon-llc/ABM8G-12.288MHZ-18-D2Y-T/535-10262-1-ND/2218075; Device Package: 4-SMD, No Lead; Frequency: 12.288MHz; Height - Seated (Max): 0.039" (1.00mm); LastUpdated: 3/19/2020 10:36:25 PM; Lifecycle Status: Active; Load Capacitance: 18pF; Minimum Order: 1; Mounting Type: Surface Mount; Operating Temperature: -40°C ~ 85°C; Package / Case: 4-SMD, No Lead; Packaging: TapeAndReel; PartId: 355; Part Status: Active; Price: 0.59; Series: ABM8G; Size / Dimension: 0.126" L x 0.098" W (3.20mm x 2.50mm); Supplier 1: DigiKey; Supplier Part Number 1: 535-10262-1-ND; Type: MHz Crystal; Value: 12.288MHz
footprint ABRACON ABM8G
pins: 1, 2 GND, 3, 4 GND

## ABM8G-12.288MHZ-B4Y-T
designator Y?, comment 12.288MHz
CRYSTAL 12.2880MHZ 10PF SMD; Part Number: ABM8G-12.288MHZ-B4Y-T; Manufacturer: Abracon LLC; ESR (Equivalent Series Resistance): 80 Ohms; Frequency Stability: ±30ppm; Operating Mode: Fundamental; ComponentLink1Description: Datasheet; ComponentLink1URL: https://abracon.com/Resonators/ABM8G.pdf; ComponentLink2Description: DigiKey Link; ComponentLink2URL: http://digikey.com/product-detail/en/abracon-llc/ABM8G-12.288MHZ-B4Y-T/535-10284-1-ND/2218097; Device Package: 4-SMD, No Lead; Frequency: 12.288MHz; Frequency Tolerance: ±30ppm; Height - Seated (Max): 0.039" (1.00mm); LastUpdated: 3/19/2020 10:36:25 PM; Lifecycle Status: Active; Load Capacitance: 10pF; Minimum Order: 1; Mounting Type: Surface Mount; Operating Temperature: -20°C ~ 70°C; Package / Case: 4-SMD, No Lead; Packaging: TapeAndReel; PartId: 345; Part Status: Active; Price: 0.50; Series: ABM8G; Size / Dimension: 0.126" L x 0.098" W (3.20mm x 2.50mm); Supplier 1: DigiKey; Supplier Part Number 1: 535-10284-1-ND; Type: MHz Crystal; Value: 12.288MHz
footprint ABRACON ABM8G
pins: 1, 2 GND, 3, 4 GND

## ABM8G-13.000MHZ-18-D2Y-T
designator Y?, comment 13MHz
CRYSTAL 13.0000MHZ 18PF SMD; Part Number: ABM8G-13.000MHZ-18-D2Y-T; Manufacturer: Abracon LLC; ESR (Equivalent Series Resistance): 80 Ohms; Frequency Stability: ±30ppm; Frequency Tolerance: ±20ppm; Operating Mode: Fundamental; ComponentLink1Description: Datasheet; ComponentLink1URL: https://abracon.com/Resonators/ABM8G.pdf; ComponentLink2Description: DigiKey Link; ComponentLink2URL: http://digikey.com/product-detail/en/abracon-llc/ABM8G-13.000MHZ-18-D2Y-T/535-10263-6-ND/2218143; Device Package: 4-SMD, No Lead; Frequency: 13MHz; Height - Seated (Max): 0.039" (1.00mm); LastUpdated: 3/19/2020 10:36:25 PM; Lifecycle Status: Active; Load Capacitance: 18pF; Minimum Order: 1; Mounting Type: Surface Mount; Operating Temperature: -40°C ~ 85°C; Package / Case: 4-SMD, No Lead; Packaging: TapeAndReel; PartId: 331; Part Status: Active; Price: 0.59; Series: ABM8G; Size / Dimension: 0.126" L x 0.098" W (3.20mm x 2.50mm); Supplier 1: DigiKey; Supplier Part Number 1: 535-10263-6-ND; Type: MHz Crystal; Value: 13MHz
footprint ABRACON ABM8G
pins: 1, 2 GND, 3, 4 GND

## ABM8G-13.560MHZ-4Y-T3
designator Y?, comment 13.56MHz
CRYSTAL 13.5600MHZ 10PF SMD; Part Number: ABM8G-13.560MHZ-4Y-T3; Manufacturer: Abracon LLC; ESR (Equivalent Series Resistance): 80 Ohms; Frequency Stability: ±30ppm; Operating Mode: Fundamental; ComponentLink1Description: Datasheet; ComponentLink1URL: https://abracon.com/Resonators/ABM8G.pdf; ComponentLink2Description: DigiKey Link; ComponentLink2URL: http://digikey.com/product-detail/en/abracon-llc/ABM8G-13.560MHZ-4Y-T3/535-10904-1-ND/2624237; Device Package: 4-SMD, No Lead; Frequency: 13.56MHz; Frequency Tolerance: ±30ppm; Height - Seated (Max): 0.039" (1.00mm); LastUpdated: 3/19/2020 10:36:25 PM; Lifecycle Status: Active; Load Capacitance: 10pF; Minimum Order: 1; Mounting Type: Surface Mount; Operating Temperature: -10°C ~ 60°C; Package / Case: 4-SMD, No Lead; Packaging: TapeAndReel; PartId: 337; Part Status: Active; Price: 0.39; Series: ABM8G; Size / Dimension: 0.126" L x 0.098" W (3.20mm x 2.50mm); Supplier 1: DigiKey; Supplier Part Number 1: 535-10904-1-ND; Type: MHz Crystal; Value: 13.56MHz
footprint ABRACON ABM8G
pins: 1, 2 GND, 3, 4 GND

## ABM8G-13.560MHZ-18-D2Y-T
designator Y?, comment 13.56MHz
CRYSTAL 13.5600MHZ 18PF SMD; Part Number: ABM8G-13.560MHZ-18-D2Y-T; Manufacturer: Abracon LLC; ESR (Equivalent Series Resistance): 80 Ohms; Frequency Stability: ±30ppm; Frequency Tolerance: ±20ppm; Operating Mode: Fundamental; ComponentLink1Description: Datasheet; ComponentLink1URL: https://abracon.com/Resonators/ABM8G.pdf; ComponentLink2Description: DigiKey Link; ComponentLink2URL: http://digikey.com/product-detail/en/abracon-llc/ABM8G-13.560MHZ-18-D2Y-T/535-10264-1-ND/2218077; Device Package: 4-SMD, No Lead; Frequency: 13.56MHz; Height - Seated (Max): 0.039" (1.00mm); LastUpdated: 3/19/2020 10:36:25 PM; Lifecycle Status: Active; Load Capacitance: 18pF; Minimum Order: 1; Mounting Type: Surface Mount; Operating Temperature: -40°C ~ 85°C; Package / Case: 4-SMD, No Lead; Packaging: TapeAndReel; PartId: 311; Part Status: Active; Price: 0.59; Series: ABM8G; Size / Dimension: 0.126" L x 0.098" W (3.20mm x 2.50mm); Supplier 1: DigiKey; Supplier Part Number 1: 535-10264-1-ND; Type: MHz Crystal; Value: 13.56MHz
footprint ABRACON ABM8G
pins: 1, 2 GND, 3, 4 GND

## ABM8G-13.560MHZ-B4Y-T
designator Y?, comment 13.56MHz
CRYSTAL 13.5600MHZ 10PF SMD; Part Number: ABM8G-13.560MHZ-B4Y-T; Manufacturer: Abracon LLC; ESR (Equivalent Series Resistance): 80 Ohms; Frequency Stability: ±30ppm; Operating Mode: Fundamental; ComponentLink1Description: Datasheet; ComponentLink1URL: https://abracon.com/Resonators/ABM8G.pdf; ComponentLink2Description: DigiKey Link; ComponentLink2URL: http://digikey.com/product-detail/en/abracon-llc/ABM8G-13.560MHZ-B4Y-T/535-10286-1-ND/2218099; Device Package: 4-SMD, No Lead; Frequency: 13.56MHz; Frequency Tolerance: ±30ppm; Height - Seated (Max): 0.039" (1.00mm); LastUpdated: 3/19/2020 10:36:25 PM; Lifecycle Status: Active; Load Capacitance: 10pF; Minimum Order: 1; Mounting Type: Surface Mount; Operating Temperature: -20°C ~ 70°C; Package / Case: 4-SMD, No Lead; Packaging: TapeAndReel; PartId: 344; Part Status: Active; Price: 0.50; Series: ABM8G; Size / Dimension: 0.126" L x 0.098" W (3.20mm x 2.50mm); Supplier 1: DigiKey; Supplier Part Number 1: 535-10286-1-ND; Type: MHz Crystal; Value: 13.56MHz
footprint ABRACON ABM8G
pins: 1, 2 GND, 3, 4 GND

## ABM8G-14.7456MHZ-4Y-T3
designator Y?, comment 14.7456MHz
CRYSTAL 14.7456MHZ 10PF SMD; Part Number: ABM8G-14.7456MHZ-4Y-T3; Manufacturer: Abracon LLC; ESR (Equivalent Series Resistance): 80 Ohms; Frequency Stability: ±30ppm; Operating Mode: Fundamental; ComponentLink1Description: Datasheet; ComponentLink1URL: https://abracon.com/Resonators/ABM8G.pdf; ComponentLink2Description: DigiKey Link; ComponentLink2URL: http://digikey.com/product-detail/en/abracon-llc/ABM8G-14.7456MHZ-4Y-T3/535-10906-1-ND/2624239; Device Package: 4-SMD, No Lead; Frequency: 14.7456MHz; Frequency Tolerance: ±30ppm; Height - Seated (Max): 0.039" (1.00mm); LastUpdated: 3/19/2020 10:36:25 PM; Lifecycle Status: Active; Load Capacitance: 10pF; Minimum Order: 1; Mounting Type: Surface Mount; Operating Temperature: -10°C ~ 60°C; Package / Case: 4-SMD, No Lead; Packaging: TapeAndReel; PartId: 357; Part Status: Active; Price: 0.39; Series: ABM8G; Size / Dimension: 0.126" L x 0.098" W (3.20mm x 2.50mm); Supplier 1: DigiKey; Supplier Part Number 1: 535-10906-1-ND; Type: MHz Crystal; Value: 14.7456MHz
footprint ABRACON ABM8G
pins: 1, 2 GND, 3, 4 GND

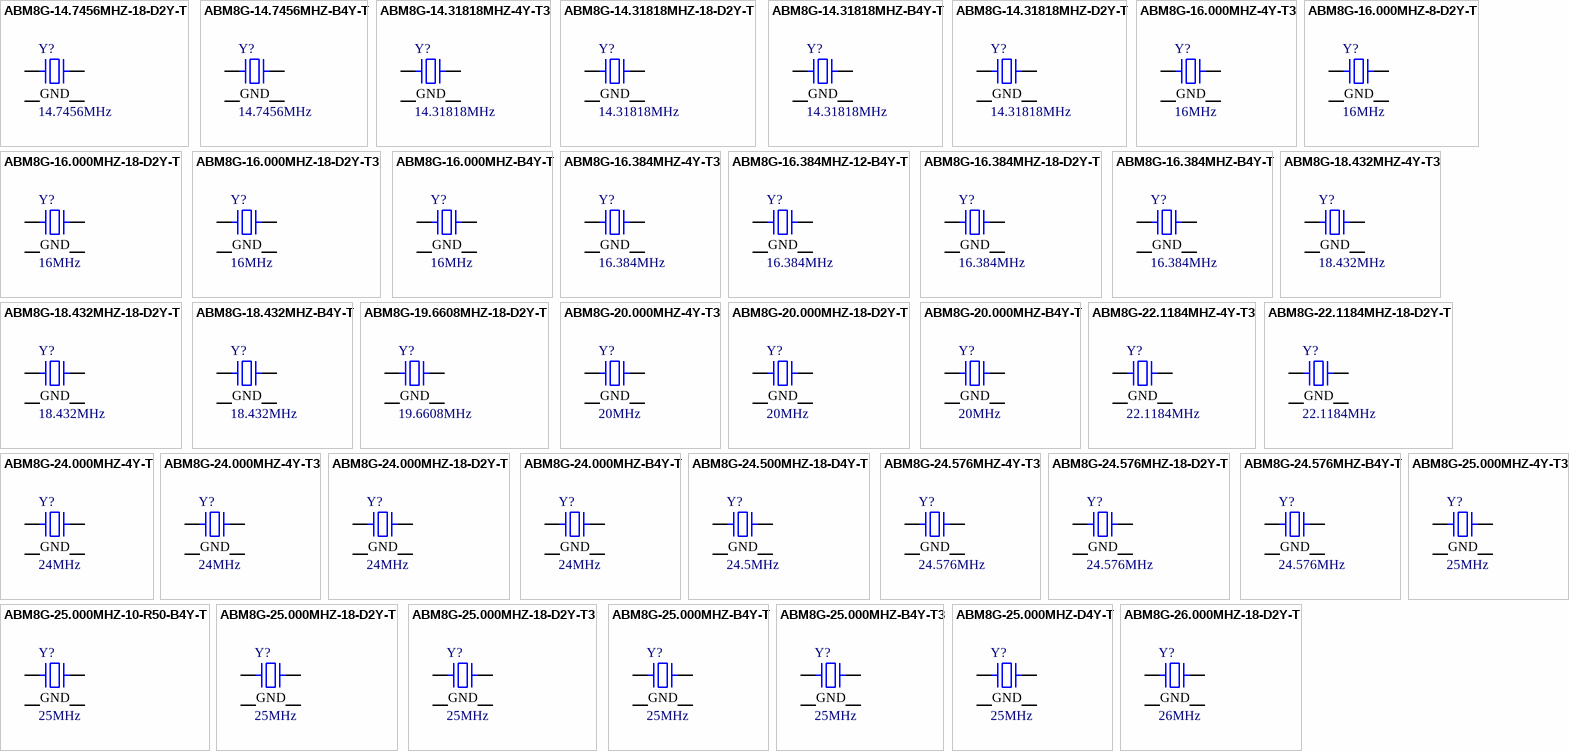
[diagram p9: symbols ABM8G-14.7456MHZ-18-D2Y-T to ABM8G-26.000MHZ-18-D2Y-T]

## ABM8G-14.7456MHZ-18-D2Y-T
designator Y?, comment 14.7456MHz
CRYSTAL 14.7456MHZ 18PF SMD; Part Number: ABM8G-14.7456MHZ-18-D2Y-T; Manufacturer: Abracon LLC; ESR (Equivalent Series Resistance): 80 Ohms; Frequency Stability: ±30ppm; Frequency Tolerance: ±20ppm; Operating Mode: Fundamental; ComponentLink1Description: Datasheet; ComponentLink1URL: https://abracon.com/Resonators/ABM8G.pdf; ComponentLink2Description: DigiKey Link; ComponentLink2URL: http://digikey.com/product-detail/en/abracon-llc/ABM8G-14.7456MHZ-18-D2Y-T/535-10266-1-ND/2218079; Device Package: 4-SMD, No Lead; Frequency: 14.7456MHz; Height - Seated (Max): 0.039" (1.00mm); LastUpdated: 3/19/2020 10:36:25 PM; Lifecycle Status: Active; Load Capacitance: 18pF; Minimum Order: 1; Mounting Type: Surface Mount; Operating Temperature: -40°C ~ 85°C; Package / Case: 4-SMD, No Lead; Packaging: TapeAndReel; PartId: 312; Part Status: Active; Price: 0.59; Series: ABM8G; Size / Dimension: 0.126" L x 0.098" W (3.20mm x 2.50mm); Supplier 1: DigiKey; Supplier Part Number 1: 535-10266-1-ND; Type: MHz Crystal; Value: 14.7456MHz
footprint ABRACON ABM8G
pins: 1, 2 GND, 3, 4 GND

## ABM8G-14.7456MHZ-B4Y-T
designator Y?, comment 14.7456MHz
CRYSTAL 14.7456MHZ 10PF SMD; Part Number: ABM8G-14.7456MHZ-B4Y-T; Manufacturer: Abracon LLC; ESR (Equivalent Series Resistance): 80 Ohms; Frequency Stability: ±30ppm; Operating Mode: Fundamental; ComponentLink1Description: Datasheet; ComponentLink1URL: https://abracon.com/Resonators/ABM8G.pdf; ComponentLink2Description: DigiKey Link; ComponentLink2URL: http://digikey.com/product-detail/en/abracon-llc/ABM8G-14.7456MHZ-B4Y-T/535-10288-1-ND/2218101; Device Package: 4-SMD, No Lead; Frequency: 14.7456MHz; Frequency Tolerance: ±30ppm; Height - Seated (Max): 0.039" (1.00mm); LastUpdated: 3/19/2020 10:36:25 PM; Lifecycle Status: Active; Load Capacitance: 10pF; Minimum Order: 1; Mounting Type: Surface Mount; Operating Temperature: -20°C ~ 70°C; Package / Case: 4-SMD, No Lead; Packaging: TapeAndReel; PartId: 341; Part Status: Active; Price: 0.50; Series: ABM8G; Size / Dimension: 0.126" L x 0.098" W (3.20mm x 2.50mm); Supplier 1: DigiKey; Supplier Part Number 1: 535-10288-1-ND; Type: MHz Crystal; Value: 14.7456MHz
footprint ABRACON ABM8G
pins: 1, 2 GND, 3, 4 GND

## ABM8G-14.31818MHZ-4Y-T3
designator Y?, comment 14.31818MHz
CRYSTAL 14.31818MHZ 10PF SMD; Part Number: ABM8G-14.31818MHZ-4Y-T3; Manufacturer: Abracon LLC; ESR (Equivalent Series Resistance): 80 Ohms; Frequency Stability: ±30ppm; Operating Mode: Fundamental; ComponentLink1Description: Datasheet; ComponentLink1URL: https://abracon.com/Resonators/ABM8G.pdf; ComponentLink2Description: DigiKey Link; ComponentLink2URL: http://digikey.com/product-detail/en/abracon-llc/ABM8G-14.31818MHZ-4Y-T3/535-10905-1-ND/2624238; Device Package: 4-SMD, No Lead; Frequency: 14.31818MHz; Frequency Tolerance: ±30ppm; Height - Seated (Max): 0.039" (1.00mm); LastUpdated: 3/19/2020 10:36:25 PM; Lifecycle Status: Active; Load Capacitance: 10pF; Minimum Order: 1; Mounting Type: Surface Mount; Operating Temperature: -10°C ~ 60°C; Package / Case: 4-SMD, No Lead; Packaging: TapeAndReel; PartId: 330; Part Status: Active; Price: 0.39; Series: ABM8G; Size / Dimension: 0.126" L x 0.098" W (3.20mm x 2.50mm); Supplier 1: DigiKey; Supplier Part Number 1: 535-10905-1-ND; Type: MHz Crystal; Value: 14.31818MHz
footprint ABRACON ABM8G
pins: 1, 2 GND, 3, 4 GND

## ABM8G-14.31818MHZ-18-D2Y-T
designator Y?, comment 14.31818MHz
CRYSTAL 14.31818MHZ 18PF SMD; Part Number: ABM8G-14.31818MHZ-18-D2Y-T; Manufacturer: Abracon LLC; ESR (Equivalent Series Resistance): 80 Ohms; Frequency Stability: ±30ppm; Frequency Tolerance: ±20ppm; Operating Mode: Fundamental; ComponentLink1Description: Datasheet; ComponentLink1URL: https://abracon.com/Resonators/ABM8G.pdf; ComponentLink2Description: DigiKey Link; ComponentLink2URL: http://digikey.com/product-detail/en/abracon-llc/ABM8G-14.31818MHZ-18-D2Y-T/535-10265-1-ND/2218078; Device Package: 4-SMD, No Lead; Frequency: 14.31818MHz; Height - Seated (Max): 0.039" (1.00mm); LastUpdated: 3/19/2020 10:36:25 PM; Lifecycle Status: Active; Load Capacitance: 18pF; Minimum Order: 1; Mounting Type: Surface Mount; Operating Temperature: -40°C ~ 85°C; Package / Case: 4-SMD, No Lead; Packaging: TapeAndReel; PartId: 321; Part Status: Active; Price: 0.59; Series: ABM8G; Size / Dimension: 0.126" L x 0.098" W (3.20mm x 2.50mm); Supplier 1: DigiKey; Supplier Part Number 1: 535-10265-1-ND; Type: MHz Crystal; Value: 14.31818MHz
footprint ABRACON ABM8G
pins: 1, 2 GND, 3, 4 GND

## ABM8G-14.31818MHZ-B4Y-T
designator Y?, comment 14.31818MHz
CRYSTAL 14.31818MHZ 10PF SMD; Part Number: ABM8G-14.31818MHZ-B4Y-T; Manufacturer: Abracon LLC; ESR (Equivalent Series Resistance): 80 Ohms; Frequency Stability: ±30ppm; Operating Mode: Fundamental; ComponentLink1Description: Datasheet; ComponentLink1URL: https://abracon.com/Resonators/ABM8G.pdf; ComponentLink2Description: DigiKey Link; ComponentLink2URL: http://digikey.com/product-detail/en/abracon-llc/ABM8G-14.31818MHZ-B4Y-T/535-10287-1-ND/2218100; Device Package: 4-SMD, No Lead; Frequency: 14.31818MHz; Frequency Tolerance: ±30ppm; Height - Seated (Max): 0.039" (1.00mm); LastUpdated: 3/19/2020 10:36:25 PM; Lifecycle Status: Active; Load Capacitance: 10pF; Minimum Order: 1; Mounting Type: Surface Mount; Operating Temperature: -20°C ~ 70°C; Package / Case: 4-SMD, No Lead; Packaging: TapeAndReel; PartId: 342; Part Status: Active; Price: 0.50; Series: ABM8G; Size / Dimension: 0.126" L x 0.098" W (3.20mm x 2.50mm); Supplier 1: DigiKey; Supplier Part Number 1: 535-10287-1-ND; Type: MHz Crystal; Value: 14.31818MHz
footprint ABRACON ABM8G
pins: 1, 2 GND, 3, 4 GND

## ABM8G-14.31818MHZ-D2Y-T
designator Y?, comment 14.31818MHz
CRYSTAL 14.31818MHZ 18PF SMD; Part Number: ABM8G-14.31818MHZ-D2Y-T; Manufacturer: Abracon LLC; ESR (Equivalent Series Resistance): 80 Ohms; Frequency Stability: ±30ppm; Frequency Tolerance: ±20ppm; Load Capacitance: 10pF; Operating Mode: Fundamental; ComponentLink1Description: Datasheet; ComponentLink1URL: https://abracon.com/Resonators/ABM8G.pdf; ComponentLink2Description: DigiKey Link; ComponentLink2URL: http://digikey.com/product-detail/en/abracon-llc/ABM8G-14.31818MHZ-D2Y-T/535-14409-1-ND/8582170; Device Package: 4-SMD, No Lead; Frequency: 14.31818MHz; Height - Seated (Max): 0.039" (1.00mm); LastUpdated: 3/19/2020 10:36:25 PM; Lifecycle Status: Active; Minimum Order: 1; Mounting Type: Surface Mount; Operating Temperature: -40°C ~ 85°C; Package / Case: 4-SMD, No Lead; Packaging: TapeAndReel; PartId: 352; Part Status: Active; Price: 0.41; Series: ABM8G; Size / Dimension: 0.126" L x 0.098" W (3.20mm x 2.50mm); Supplier 1: DigiKey; Supplier Part Number 1: 535-14409-1-ND; Type: MHz Crystal; Value: 14.31818MHz
footprint ABRACON ABM8G
pins: 1, 2 GND, 3, 4 GND

## ABM8G-16.000MHZ-4Y-T3
designator Y?, comment 16MHz
CRYSTAL 16.0000MHZ 10PF SMD; Part Number: ABM8G-16.000MHZ-4Y-T3; Manufacturer: Abracon LLC; ESR (Equivalent Series Resistance): 80 Ohms; Frequency Stability: ±30ppm; Operating Mode: Fundamental; ComponentLink1Description: Datasheet; ComponentLink1URL: https://abracon.com/Resonators/ABM8G.pdf; ComponentLink2Description: DigiKey Link; ComponentLink2URL: http://digikey.com/product-detail/en/abracon-llc/ABM8G-16.000MHZ-4Y-T3/535-10907-1-ND/2624240; Device Package: 4-SMD, No Lead; Frequency: 16MHz; Frequency Tolerance: ±30ppm; Height - Seated (Max): 0.039" (1.00mm); LastUpdated: 3/19/2020 10:36:25 PM; Lifecycle Status: Active; Load Capacitance: 10pF; Minimum Order: 1; Mounting Type: Surface Mount; Operating Temperature: -10°C ~ 60°C; Package / Case: 4-SMD, No Lead; Packaging: TapeAndReel; PartId: 359; Part Status: Active; Price: 0.39; Series: ABM8G; Size / Dimension: 0.126" L x 0.098" W (3.20mm x 2.50mm); Supplier 1: DigiKey; Supplier Part Number 1: 535-10907-1-ND; Type: MHz Crystal; Value: 16MHz
footprint ABRACON ABM8G
pins: 1, 2 GND, 3, 4 GND

## ABM8G-16.000MHZ-8-D2Y-T
designator Y?, comment 16MHz
CRYSTAL 16.000MHZ 8PF SMD; Part Number: ABM8G-16.000MHZ-8-D2Y-T; Manufacturer: Abracon LLC; ESR (Equivalent Series Resistance): 80 Ohms; Frequency Stability: ±30ppm; Frequency Tolerance: ±20ppm; Operating Mode: Fundamental; ComponentLink1Description: Datasheet; ComponentLink1URL: https://abracon.com/Resonators/ABM8G.pdf; ComponentLink2Description: DigiKey Link; ComponentLink2URL: http://digikey.com/product-detail/en/abracon-llc/ABM8G-16.000MHZ-8-D2Y-T/535-14410-1-ND/8582171; Device Package: 4-SMD, No Lead; Frequency: 16MHz; Height - Seated (Max): 0.039" (1.00mm); LastUpdated: 3/19/2020 10:36:25 PM; Lifecycle Status: Active; Load Capacitance: 8pF; Minimum Order: 1; Mounting Type: Surface Mount; Operating Temperature: -40°C ~ 85°C; Package / Case: 4-SMD, No Lead; Packaging: TapeAndReel; PartId: 369; Part Status: Active; Price: 0.41; Series: ABM8G; Size / Dimension: 0.126" L x 0.098" W (3.20mm x 2.50mm); Supplier 1: DigiKey; Supplier Part Number 1: 535-14410-1-ND; Type: MHz Crystal; Value: 16MHz
footprint ABRACON ABM8G
pins: 1, 2 GND, 3, 4 GND

## ABM8G-16.000MHZ-18-D2Y-T
designator Y?, comment 16MHz
CRYSTAL 16.0000MHZ 18PF SMD; Part Number: ABM8G-16.000MHZ-18-D2Y-T; Manufacturer: Abracon LLC; ESR (Equivalent Series Resistance): 80 Ohms; Frequency Stability: ±30ppm; Frequency Tolerance: ±20ppm; Operating Mode: Fundamental; ComponentLink1Description: Datasheet; ComponentLink1URL: https://abracon.com/Resonators/ABM8G.pdf; ComponentLink2Description: DigiKey Link; ComponentLink2URL: http://digikey.com/product-detail/en/abracon-llc/ABM8G-16.000MHZ-18-D2Y-T/535-10267-1-ND/2218080; Device Package: 4-SMD, No Lead; Frequency: 16MHz; Height - Seated (Max): 0.039" (1.00mm); LastUpdated: 3/19/2020 10:36:25 PM; Lifecycle Status: Active; Load Capacitance: 18pF; Minimum Order: 1; Mounting Type: Surface Mount; Operating Temperature: -40°C ~ 85°C; Package / Case: 4-SMD, No Lead; Packaging: TapeAndReel; PartId: 315; Part Status: Active; Price: 0.59; Series: ABM8G; Size / Dimension: 0.126" L x 0.098" W (3.20mm x 2.50mm); Supplier 1: DigiKey; Supplier Part Number 1: 535-10267-1-ND; Type: MHz Crystal; Value: 16MHz
footprint ABRACON ABM8G
pins: 1, 2 GND, 3, 4 GND

## ABM8G-16.000MHZ-18-D2Y-T3
designator Y?, comment 16MHz
CRYSTAL 16.0000MHZ 18PF SMD; Part Number: ABM8G-16.000MHZ-18-D2Y-T3; Manufacturer: Abracon LLC; ESR (Equivalent Series Resistance): 80 Ohms; Frequency Stability: ±30ppm; Frequency Tolerance: ±20ppm; Operating Mode: Fundamental; ComponentLink1Description: Datasheet; ComponentLink1URL: https://abracon.com/Resonators/ABM8G.pdf; ComponentLink2Description: DigiKey Link; ComponentLink2URL: http://digikey.com/product-detail/en/abracon-llc/ABM8G-16.000MHZ-18-D2Y-T3/535-14314-1-ND/8538154; Device Package: 4-SMD, No Lead; Frequency: 16MHz; Height - Seated (Max): 0.039" (1.00mm); LastUpdated: 3/19/2020 10:36:25 PM; Lifecycle Status: Active; Load Capacitance: 18pF; Minimum Order: 1; Mounting Type: Surface Mount; Operating Temperature: -40°C ~ 85°C; Package / Case: 4-SMD, No Lead; Packaging: TapeAndReel; PartId: 348; Part Status: Active; Price: 0.51; Series: ABM8G; Size / Dimension: 0.126" L x 0.098" W (3.20mm x 2.50mm); Supplier 1: DigiKey; Supplier Part Number 1: 535-14314-1-ND; Type: MHz Crystal; Value: 16MHz
footprint ABRACON ABM8G
pins: 1, 2 GND, 3, 4 GND